# EAGLE library part RELE (library custom-2002)
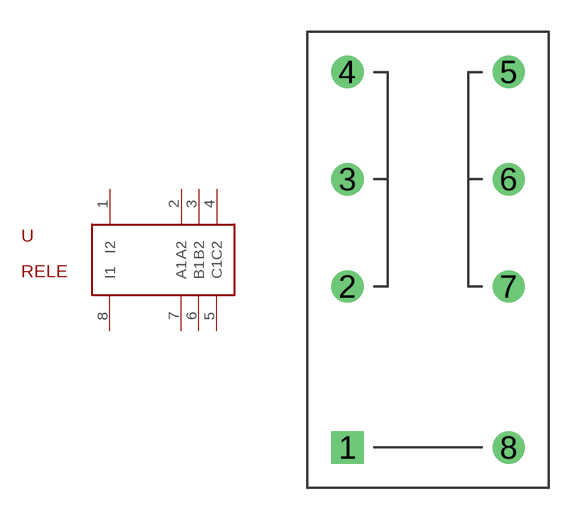
[diagram p17: symbol with the pads of RELE; footprint RELE]

Designator prefix -

## RELE  [RELE]
1  I2
2  A2
3  B2
4  C2
5  C1
6  B1
7  A1
8  I1

## Footprint RELE (pad centres in mm)
drill 1.016 square: 1 0,0
drill 1.016 round: 2 0,7.62; 3 0,12.7; 4 0,17.78; 5 7.62,17.78; 6 7.62,12.7; 7 7.62,7.62; 8 7.62,0